# EAGLE library part RJ11-6 (library wifi_WX)
Cat3, RJ11 6 pin socket
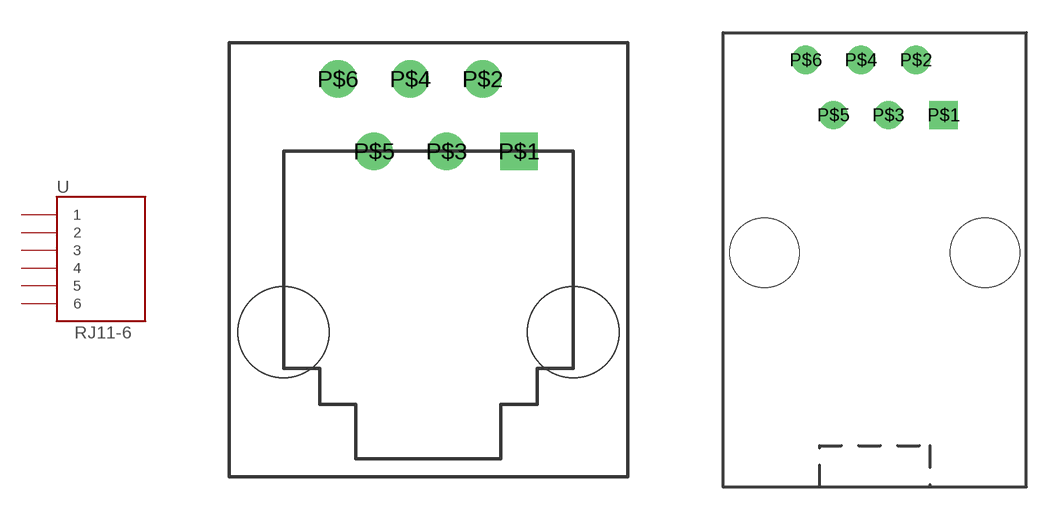
[diagram p9: symbol with the pads of RJ11-6-VERT; footprints RJ11-6-VERT, RJ11_HOR_LP]

Designator prefix -

## RJ11-6VERT_LP  [RJ11-6-VERT]
P$1  1
P$2  2
P$3  3
P$4  4
P$5  5
P$6  6

## RJ11-6HOR_LP  [RJ11_HOR_LP]
Pads as for RJ11-6-VERT

## Footprint RJ11-6-VERT (pad centres in mm)
drill 0.8 square: P$1 3.175,3.81
drill 0.8: P$2 1.905,6.35; P$3 0.635,3.81; P$4 -0.635,6.35; P$5 -1.905,3.81; P$6 -3.175,6.35
hole 3.2 at -5.08,-2.54
hole 3.2 at 5.08,-2.54

## Footprint RJ11_HOR_LP (pad centres in mm)
drill 0.8 square: P$1 3.175,7.62
drill 0.8: P$2 1.905,10.16; P$3 0.635,7.62; P$4 -0.635,10.16; P$5 -1.905,7.62; P$6 -3.175,10.16
hole 3.2 at -5.08,1.27
hole 3.2 at 5.08,1.27